# EAGLE library part TSW-S-13 (library con-samtec-tsw)
HEADER
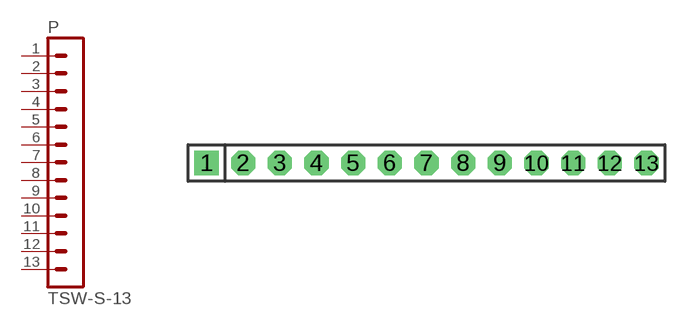
[diagram p7: symbol with the pads of TSW-S-13; footprint TSW-S-13]

Designator prefix P

## TSW-S-13  [TSW-S-13]
1  1  pas
2  2  pas
3  3  pas
4  4  pas
5  5  pas
6  6  pas
7  7  pas
8  8  pas
9  9  pas
10  10  pas
11  11  pas
12  12  pas
13  13  pas

## Footprint TSW-S-13 (pad centres in mm)
HEADER
drill 0.914 pad 1.676 square: 1 -15.24,0
drill 0.914 pad 1.676 octagon: 2 -12.7,0; 3 -10.16,0; 4 -7.62,0; 5 -5.08,0; 6 -2.54,0; 7 0,0; 8 2.54,0; 9 5.08,0; 10 7.62,0; 11 10.16,0; 12 12.7,0; 13 15.24,0